# EAGLE library part TL072 (library ic)
Low noise JFET quad operational amplifier
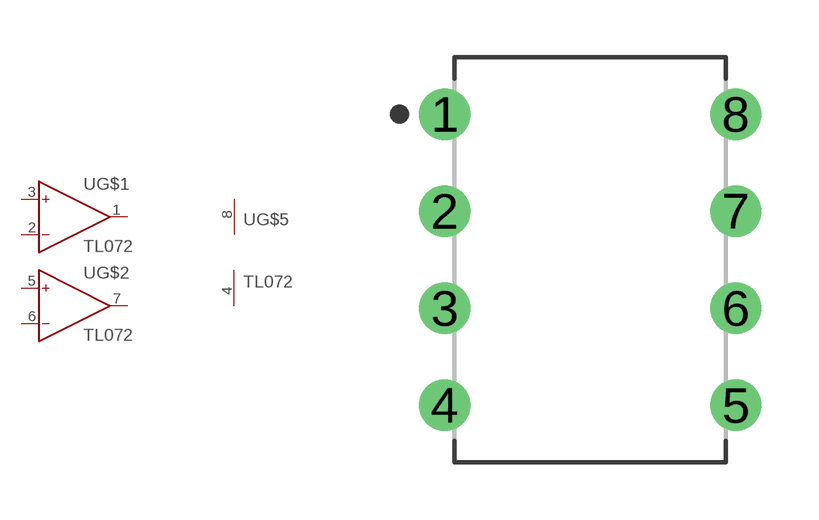
[diagram p2: symbol with the pads of DIP762W53P254L980H508Q8B; footprint DIP762W53P254L980H508Q8B]

Designator prefix U; gates G$1=OP G$2=OP G$5=PWR+-

## TL072PDIP-8 (LINK: https://www.mouser.se/ProductDetail/Texas-Instruments/TL072IP?qs=5BZzbFV4k2v7IBrcArRPQw%3D%3D; MPN: TL072IP; SUPPLIER: Mouser)  [DIP762W53P254L980H508Q8B]
1  G$1:OUT  out
2  G$1:IN-  in
3  G$1:IN+  in
4  G$5:V-  pwr
5  G$2:IN+  in
6  G$2:IN-  in
7  G$2:OUT  out
8  G$5:V+  pwr

## Footprint DIP762W53P254L980H508Q8B (pad centres in mm)
8-DIP, 2.54 mm (0.10 in) pitch, 7.62 mm (0.30 in) span, 9.80 X 6.66 X 5.08 mm body 8-pin DIP package with 2.54 mm (0.10 in) pitch, 7.62 mm (0.30 in) span with body size 9.80 X 6.66 X 5.08 mm
drill 0.743 pad 1.343: 1 -3.81,3.81; 2 -3.81,1.27; 3 -3.81,-1.27; 4 -3.81,-3.81; 5 3.81,-3.81; 6 3.81,-1.27; 7 3.81,1.27; 8 3.81,3.81